# Altium footprint library IIS328DQTR.PcbLib: 1 footprints
Each footprint in its own frame and in the unit in brackets; x right, y up, seen from the top. Pads: shape width x height; smd on the part's side, far side on the other; paste and mask are expansions set on the pad; w line width, h text height; cw(c..) or ccw(c..) is an arc to the next point about the centre after c.
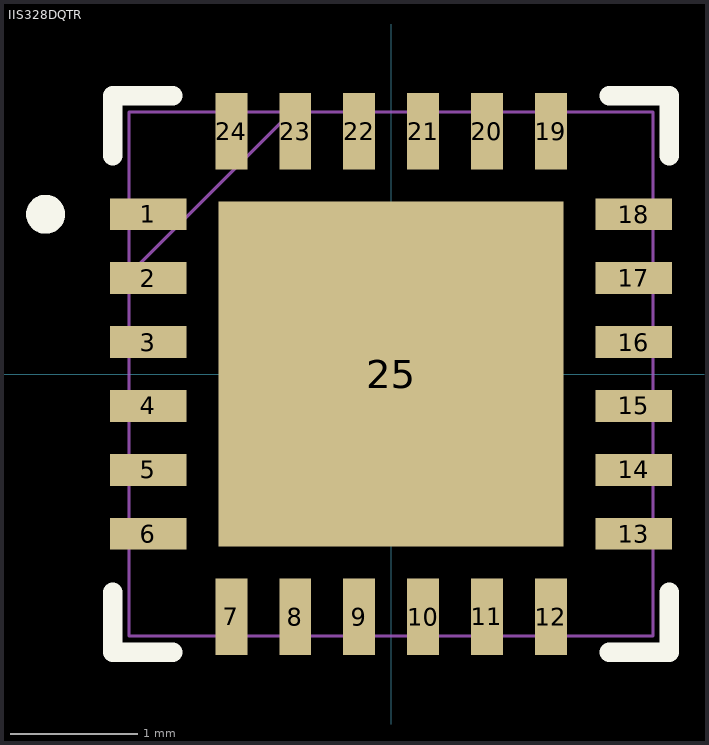
[diagram p0: the footprint, top view; thin cyan lines are the x and y axes]

## IIS328DQTR [mm]
pads (25):
  rect 0.6x0.25 smd paste-0.06 mask+0.051: 1(-1.9,1.25) 2(-1.9,0.75) 3(-1.9,0.25) 4(-1.9,-0.25) 5(-1.9,-0.75) 6(-1.9,-1.25) 13(1.9,-1.25) 14(1.9,-0.75) 15(1.9,-0.25) 16(1.9,0.25) 17(1.9,0.75) 18(1.9,1.25)
  rect 0.25x0.6 smd paste-0.06 mask+0.051: 7(-1.25,-1.9) 8(-0.75,-1.9) 9(-0.25,-1.9) 10(0.25,-1.9) 11(0.75,-1.9) 12(1.25,-1.9) 19(1.25,1.9) 20(0.75,1.9) 21(0.25,1.9) 22(-0.25,1.9) 23(-0.75,1.9) 24(-1.25,1.9)
  rect 2.7x2.7 smd paste-1.337 mask+0.051: 25(0,0)
Top Overlay:
  circle w0.152: c-2.704,1.25 r0.076
  lines w0.152: -2.177,-1.708 -2.177,-2.177 -1.708,-2.177 ; -2.177,1.708 -2.177,2.177 -1.708,2.177 ; 1.708,-2.177 2.177,-2.177 2.177,-1.708 ; 1.708,2.177 2.177,2.177 2.177,1.708
Top Paste:
  region: 1.25,-0.1 0.1,-0.1 0.1,-1.25 1.25,-1.25
  region: 1.25,1.25 0.1,1.25 0.1,0.1 1.25,0.1
  region: -0.1,-0.1 -1.25,-0.1 -1.25,-1.25 -0.1,-1.25
  region: -0.1,1.25 -1.25,1.25 -1.25,0.1 -0.1,0.1
Mechanical 13:
  circle w0: c-1.854,1.25 r0.076
  lines w0.025: -2.05,0.78 -0.78,2.05 ; -2.05,-2.05 -2.05,2.05 2.05,2.05 2.05,-2.05 -2.05,-2.05
Mechanical 15:
  lines w0.127: -0.254,0 0,0 ; 0,-0.254 0,0 ; 0,0.254 0,0 ; 0.254,0 0,0
3D body "QFN-24_4X4MM_STM.step": height 0.75, standoff 0, extent -2.097,-2.107 2.105,2.095